# Altium footprint library PcbLib1.PcbLib: 1 footprints
Each footprint in its own frame and in the unit in brackets; x right, y up, seen from the top. Pads: shape width x height; smd on the part's side, far side on the other; paste and mask are expansions set on the pad; w line width, h text height; cw(c..) or ccw(c..) is an arc to the next point about the centre after c.
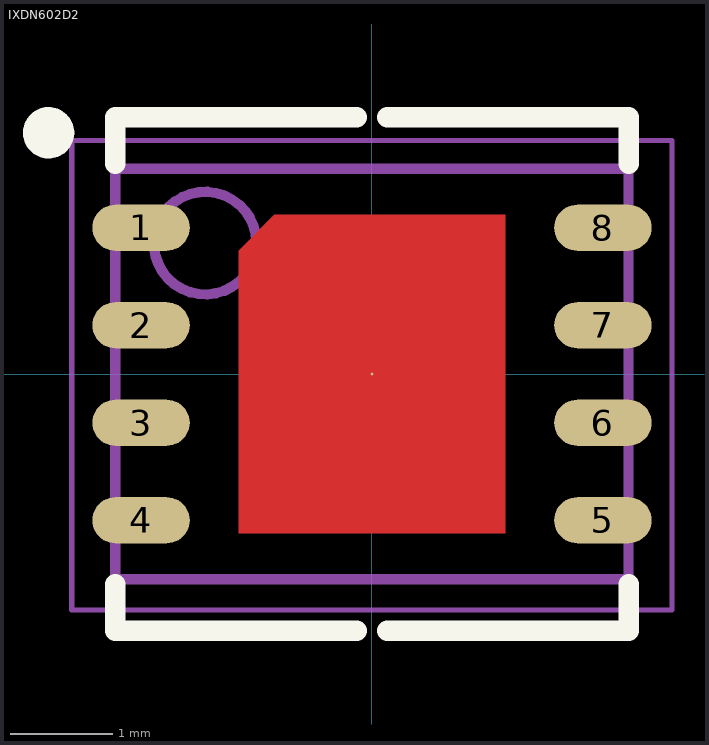
[diagram p0: the footprint, top view; thin cyan lines are the x and y axes]

## IXDN602D2 [mm] "DFN, 8-Leads"
height 1
pads (9):
  oval 0.95x0.45 smd: 1(-2.25,1.425) 2(-2.25,0.475) 3(-2.25,-0.475) 4(-2.25,-1.425) 5(2.25,-1.425) 6(2.25,-0.475) 7(2.25,0.475) 8(2.25,1.425)
  round 0.025 smd: 9(0,0)
Top Layer:
  region: -1.3,1.2 -0.95,1.55 1.3,1.55 1.3,-1.55 -1.275,-1.55 -1.3,-1.55
Top Overlay:
  circle w0.25: c-3.15,2.35 r0.125
  lines w0.2: -2.5,-2.05 -2.5,-2.5 -0.15,-2.5 ; -2.5,2.05 -2.5,2.5 -0.15,2.5 ; 0.15,-2.5 2.5,-2.5 2.5,-2.05 ; 0.15,2.5 2.5,2.5 2.5,2.05
Mechanical 13:
  circle w0.1: c-1.625,1.275 r0.5
  lines w0.1: -2.5,-2 -2.5,2 2.5,2 2.5,-2 -2.5,-2
Mechanical 15:
  lines w0.05: -2.925,-2.3 -2.925,2.275 2.925,2.275 2.925,-2.3 -2.925,-2.3
  lines w0.1: -0.5,0 0.5,0 ; 0,-0.5 0,0.5
3D body: height 1, standoff 1, extent -2.5,-2 2.5,2